# EAGLE library part LP6-EWN1-03-N3 (library led_cree)
Cree 3 Chip SMD High-Power Led
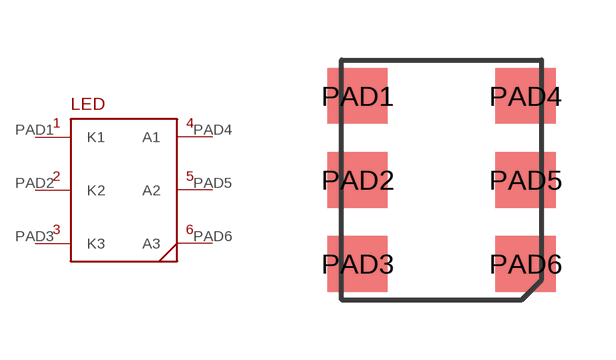
[diagram p0: symbol with the pads of PLCC6; footprint PLCC6]

Designator prefix LED

## LP6-EWN1-03-N3  [PLCC6]
PAD1  K1  out
PAD2  K2  out
PAD3  K3  out
PAD4  A1  in
PAD5  A2  in
PAD6  A3  in

## Footprint PLCC6 (pad centres in mm)
smd 1.5 x 1.4: PAD1 -2.1,2.1; PAD2 -2.1,0; PAD3 -2.1,-2.1; PAD4 2.1,2.1; PAD5 2.1,0; PAD6 2.1,-2.1